# Altium schematic symbol library potenciostato_1.SCHLIB: 107 symbols
Pins are listed as number, name and electrical type; pins without a type are passive.

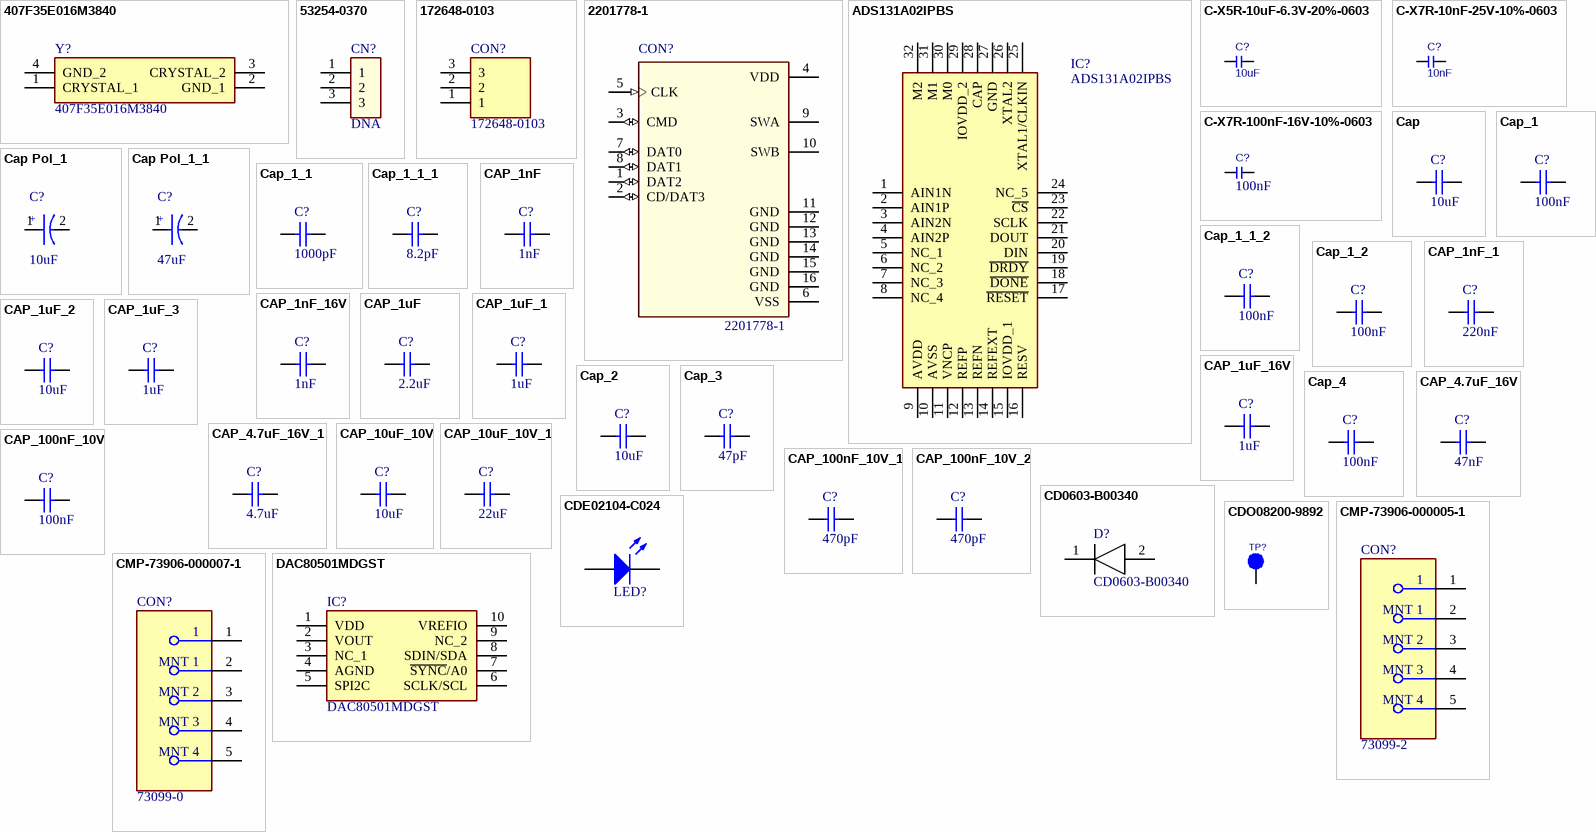
[diagram p0: symbols 407F35E016M3840 to DAC80501MDGST]

## 407F35E016M3840
designator Y?
Crystal or Oscillator; Manufacturer: CTS Electronic Components; PCBA: Assembly; Datasheet Link: http://www.ctscorp.com/wp-content/uploads/407.pdf; Value: 407F35E016M3840; MPN: 407F35E016M3840
footprint 407F35E016M3840
pins: 1 CRYSTAL_1, 2 GND_1, 3 CRYSTAL_2, 4 GND_2

## 53254-0370
designator CN?, comment DNA
MPN: Header; PCBA: DNA; Value: DNA
footprint HDR1X3 Large (Connector; Header; 5x2 Position)
pins: 1, 2, 3

## 172648-0103
designator CON?
Connector; Manufacturer: Molex; PCBA: Assembly; Datasheet Link: https://componentsearchengine.com//172648-0103.pdf; Value: 172648-0103; MPN: 172648-0103
footprint 1726480103
pins: 1, 2, 3

## 2201778-1
designator CON?
Manufacturer: TE Connectivity; PCBA: Assembly; MPN: 2201778-1; Datasheet: https://br.mouser.com/datasheet/2/418/PN_CD_2201778_B-1150756.pdf; Value: 2201778-1
footprint TE_2201778-1
pins: 1 DAT2 (io), 2 CD/DAT3 (io), 3 CMD (io), 4 VDD (power), 5 CLK (in), 6 VSS (power), 7 DAT0 (io), 8 DAT1 (io), 9 SWA, 10 SWB, 11 GND (power), 12 GND (power), 13 GND (power), 14 GND (power), 15 GND (power), 16 GND (power)

## ADS131A02IPBS
designator IC?
Integrated Circuit; Manufacturer: Texas Instruments; PCBA: Assembly; Datasheet Link: http://www.ti.com/lit/gpn/ADS131A02; MPN: ADS131A02IPBS; Value: ADS131A02IPBS
footprint QFP50P700X700X120-32N
pins: 1 AIN1N, 2 AIN1P, 3 AIN2N, 4 AIN2P, 5 NC_1, 6 NC_2, 7 NC_3, 8 NC_4, 9 AVDD, 10 AVSS, 11 VNCP, 12 REFP, 13 REFN, 14 REFEXT, 15 IOVDD_1, 16 RESV, 17 ~{RESET}, 18 ~{DONE}, 19 ~{DRDY}, 20 DIN, 21 DOUT, 22 SCLK, 23 ~{CS}, 24 NC_5, 25 XTAL1/CLKIN, 26 XTAL2, 27 GND, 28 CAP, 29 IOVDD_2, 30 M0, 31 M1, 32 M2

## C-X5R-10uF-6.3V-20%-0603
designator C?, comment 10uF
Capacitor Ceramic X5R 10uF 6.3V 20% 0603; Manufacturer: Murata Electronics; MPN: GRM188R61A106KE69D; PCBA: Assembly; Datasheet: https://www.mouser.com/datasheet/2/281/murata_03052018_GRM_Series_1-1310166.pdf; Value: 10uF
footprint 0603
pins: 1, 2

## C-X7R-10nF-25V-10%-0603
designator C?, comment 10nF
Capacitor Ceramic X7R 10nF 25V 10% 0603; Manufacturer: Wurth Electronics; MPN: 885012206089; PCBA: Assembly; Datasheet: https://www.mouser.com/datasheet/2/445/885012206089-554597.pdf; Value: 10nF
footprint 0603
pins: 1, 2

## C-X7R-100nF-16V-10%-0603
designator C?, comment 100nF
Capacitor Ceramic X7R 100nF 16V 10% 0603; Manufacturer: KEMET; MPN: C0603C104K4RACTU; PCBA: Assembly; Datasheet: https://www.mouser.com/datasheet/2/212/KEM_C1002_X7R_SMD-1102033.pdf; Value: 100nF
footprint 0603
pins: 1, 2

## Cap
designator C?, comment 10uF
MPN: GRM188R61A106KE69D; Manufacturer: Murata Electronics; PCBA: Assembly; Value: 10uF
footprint 0603
pins: 1, 2

## Cap Pol_1
designator C?, comment 10uF
Capacitor Electrolytic 10µF 20% 16V; MPN: GRM188R61A106KE69D; Manufacturer: Murata Electronics; PCB INFO: Assembly; Component Type: Standard; Complement Value: 16V; PCBA: Assembly; Value: 10uF
footprint CAP_6.6X6.6
pins: 1, 2
1 alternate drawing of the same symbol
text: +

## Cap Pol_1_1
designator C?, comment 47uF
Capacitor Electrolytic 47µF 20% 16V; MPN: UUQ1C470MCL1GB; Manufacturer: Nichicon; PCB INFO: Assembly; Component Type: Standard; Complement Value: 16V; PCBA: Assembly; Value: 47uF
footprint CAP_6.6X6.6
pins: 1, 2
1 alternate drawing of the same symbol
text: +

## Cap_1
designator C?, comment 100nF
Capacitor Ceramic 100nF 10% 16V 0603 (1608 Metric); MPN: C0603C104K4RACTU; Manufacturer: Kemet; PCB INFO: Assembly; Component Type: Standard; Complement Value: 16V; Package: 0603 (1608 Metric); PCBA: Assembly; Value: 100nF
footprint 0603
pins: 1, 2

## Cap_1_1
designator C?, comment 1000pF
Capacitor Ceramic 560pF 10% 16V 0603 (1608 Metric); MPN: 06033C102KAT2A; Manufacturer: Kyocera AVX; PCB INFO: Assembly; Component Type: Standard; Complement Value: 16V; Package: 0603 (1608 Metric); PCBA: Assembly; Value: 1000pF
footprint 0603
pins: 1, 2

## Cap_1_1_1
designator C?, comment 8.2pF
MPN: C0603C829C4GACAUTO; Manufacturer: Kemet; Complement Value: 16V; PCB INFO: Assembly; Component Type: Standard; Package: 0603 (1608 Metric); PCBA: Assembly; Value: 8.2pF
footprint 0603
pins: 1, 2

## Cap_1_1_2
designator C?, comment 100nF
Capacitor Ceramic 100nF 10% 16V 0603 (1608 Metric); MPN: C0603C104K4RACTU; Manufacturer: Kemet; PCB INFO: Assembly; Value: 10pF; Component Type: Standard; Complement Value: 16V; Package: 0603 (1608 Metric); PCBA: Assembly
footprint 0603
pins: 1, 2

## Cap_1_2
designator C?, comment 100nF
Capacitor Ceramic 100nF 10% 16V 0603 (1608 Metric); MPN: C0603C104K4RACTU; Manufacturer: Kemet; PCB INFO: Assembly; Component Type: Standard; Complement Value: 16V; Package: 0603 (1608 Metric); PCBA: Assembly; Value: 100nF
footprint 0603
pins: 1, 2

## CAP_1nF
designator C?, comment 1nF
Manufacturer: Yageo; MPN: CC0603JRX7R8BB102; PCBA: Assembly; Datasheet: https://www.mouser.com/datasheet/2/447/UPY-GPHC_X7R_6.3V-to-50V_18-1154002.pdf; Value: 1nF
footprint 0603
pins: 1, 2

## CAP_1nF_1
designator C?, comment 220nF
Manufacturer: Yageo; MPN: CC0603KRX7R7BB224; PCBA: Assembly; Datasheet: https://www.mouser.com/datasheet/2/447/UPY-GPHC_X7R_6.3V-to-50V_18-1154002.pdf; Value: 220nF
footprint 0603
pins: 1, 2

## CAP_1nF_16V
designator C?, comment 1nF
Manufacturer: Yageo; MPN: CC0603JRX7R8BB102; PCBA: Assembly; Datasheet: https://www.mouser.com/datasheet/2/447/UPY-GPHC_X7R_6.3V-to-50V_18-1154002.pdf; Value: 1nF
footprint 0603
pins: 1, 2

## CAP_1uF
designator C?, comment 2.2uF
Manufacturer: Wurth Electronics; MPN: 885012106018; Complement Value: 16V; PCBA: Assembly; Datasheet: https://www.mouser.com/datasheet/2/445/885012106018-1727438.pdf; Value: 2.2uF
footprint 0603
pins: 1, 2

## CAP_1uF_1
designator C?, comment 1uF
Manufacturer: Samsung Electro-Mechanics; MPN: CL10A105KA8NNNC; Complement Value: 16V; PCBA: Assembly; Datasheet: https://www.mouser.com/datasheet/2/445/885012106022-553988.pdf; Value: 1uF
footprint 0603
pins: 1, 2

## CAP_1uF_2
designator C?, comment 10uF
Manufacturer: Murata Electronics; MPN: GRM188R61A106KE69D; Complement Value: 16V; PCBA: Assembly; Datasheet: https://www.mouser.com/datasheet/2/212/KEM_C1006_X5R_SMD-1103249.pdf; Value: 10uF
footprint 0603
pins: 1, 2

## CAP_1uF_3
designator C?, comment 1uF
Manufacturer: Samsung Electro-Mechanics; MPN: CL10A105KA8NNNC; PCBA: Assembly; Datasheet: https://www.mouser.com/datasheet/2/585/MLCC-1837944.pdf; Value: 1uF
footprint 0603
pins: 1, 2

## CAP_1uF_16V
designator C?, comment 1uF
Manufacturer: Samsung Electro-Mechanics; MPN: CL10A105KA8NNNC; PCBA: Assembly; Datasheet: https://www.mouser.com/datasheet/2/585/MLCC-1837944.pdf; Value: 1uF
footprint 0603
pins: 1, 2

## Cap_2
designator C?, comment 10uF
Manufacturer: Murata Electronics; MPN: GRM188R61A106KE69D; PCBA: Assembly; Datasheet: https://www.mouser.com/datasheet/2/281/murata_03052018_GRM_Series_1-1310166.pdf; Value: 10uF
footprint 0603
pins: 1, 2

## Cap_3
designator C?, comment 47pF
Manufacturer: Vishay; MPN: VJ0603A470JXXPW1BC; PCBA: Assembly; Value: 47pF
footprint 0603
pins: 1, 2

## Cap_4
designator C?, comment 100nF
Manufacturer: KEMET; MPN: C0603C104K4RACTU; PCBA: Assembly; Value: 100nF
footprint 0603
pins: 1, 2

## CAP_4.7uF_16V
designator C?, comment 47nF
Manufacturer: AVX; MPN: 0603YC473KAT2A; PCBA: Assembly; Datasheet: http://www.mouser.com/ds/2/40/X7RDielectric-777024.pdf; Value: 47nF
footprint 0603
pins: 1, 2

## CAP_4.7uF_16V_1
designator C?, comment 4.7uF
Manufacturer: Taiyo Yuden; MPN: JMK105BBJ475MV-F; PCBA: Assembly; Datasheet: https://www.mouser.com/datasheet/2/396/mlcc02_e-1307760.pdf; Value: 4.7uF
footprint 0603
pins: 1, 2

## CAP_10uF_10V
designator C?, comment 10uF
Manufacturer: Murata Electronics; MPN: GRM188R61A106KE69D; PCBA: Assembly; Datasheet: http://www.mouser.com/ds/2/281/c02e-2905.pdf; Value: 10uF
footprint 0603
pins: 1, 2

## CAP_10uF_10V_1
designator C?, comment 22uF
Manufacturer: KEMET; MPN: C0603C226M9PACTU; PCBA: Assembly; Datasheet: http://www.mouser.com/ds/2/281/c02e-2905.pdf; Value: 22uF
footprint 0603
pins: 1, 2

## CAP_100nF_10V
designator C?, comment 100nF
Manufacturer: KEMET; MPN: C0603C104K4RACTU; PCBA: Assembly; Datasheet: https://www.mouser.com/datasheet/2/212/KEM_C1023_X7R_AUTO_SMD-1093309.pdf; Value: 100nF
footprint 0603
pins: 1, 2

## CAP_100nF_10V_1
designator C?, comment 470pF
Manufacturer: Kyocera AVX; MPN: 06033A471JAT2A; PCBA: Assembly; Datasheet: https://www.mouser.com/datasheet/2/212/KEM_C1023_X7R_AUTO_SMD-1093309.pdf; Value: 470pF
footprint 0603
pins: 1, 2

## CAP_100nF_10V_2
designator C?, comment 470pF
Manufacturer: Kyocera AVX; MPN: 06033A471JAT2A; PCBA: DNA; Datasheet: https://www.mouser.com/datasheet/2/212/KEM_C1023_X7R_AUTO_SMD-1093309.pdf; Value: 470pF
footprint 0603
pins: 1, 2

## CD0603-B00340
designator D?
Diode; MPN: CDBU0130R; Manufacturer: Comchip Technology; PCBA: Assembly; Datasheet Link: https://datasheet.datasheetarchive.com/originals/distributors/Datasheets-DGA23/1390916.pdf; Value: CD0603-B00340
footprint DIOM179X85N
pins: 1 K, 2 A

## CDE02104-C024
designator LED?, comment APG1608CGKC/T  (value not drawn)
Manufacturer: Kingbright; PCBA: Assembly; MPN: APG1608CGKC/T; Datasheet: http://www.mouser.com/ds/2/216/APG1608CGKC-T-76846.pdf; Value: APG1608CGKC/T
footprint 0603 - led
pins: 1 A, 2 K

## CDO08200-9892
designator TP?, comment Test Point  (value not drawn)
MPN: Test_Point; Manufacturer: DNA; PCBA: DNA; Value: Test Point
footprint TEST
pins: 1 Pin1

## CMP-73906-000005-1
designator CON?, comment 73099-2
R/A 4MM MOUNTG SAFE JACK/PCB RED; Manufacturer: Pomona Electronics; PCBA: Assembly; Value: 73099-2; MPN: 73099-2; Manufacturer Part Number: 73099-2
footprint FP-73099-2-MFG
pins: 1, 2 MNT 1, 3 MNT 2, 4 MNT 3, 5 MNT 4

## CMP-73906-000007-1
designator CON?, comment 73099-0
R/A 4MM MOUNTG SAFE JACK/PCB BLK; Manufacturer: Pomona Electronics; PCBA: Assembly; Value: 73099-0; MPN: 73099-0; Manufacturer Part Number: 73099-0
footprint FP-73099-0-MFG
pins: 1, 2 MNT 1, 3 MNT 2, 4 MNT 3, 5 MNT 4

## DAC80501MDGST
designator IC?
Integrated Circuit; Manufacturer: Texas Instruments; PCBA: Assembly; Datasheet Link: https://www.ti.com/lit/gpn/DAC80501; MPN: DAC80501MDGST; Value: DAC80501MDGST
footprint SOP50P490X110-10N
pins: 1 VDD, 2 VOUT, 3 NC_1, 4 AGND, 5 SPI2C, 6 SCLK/SCL, 7 ~{SYNC}/A0, 8 SDIN/SDA, 9 NC_2, 10 VREFIO

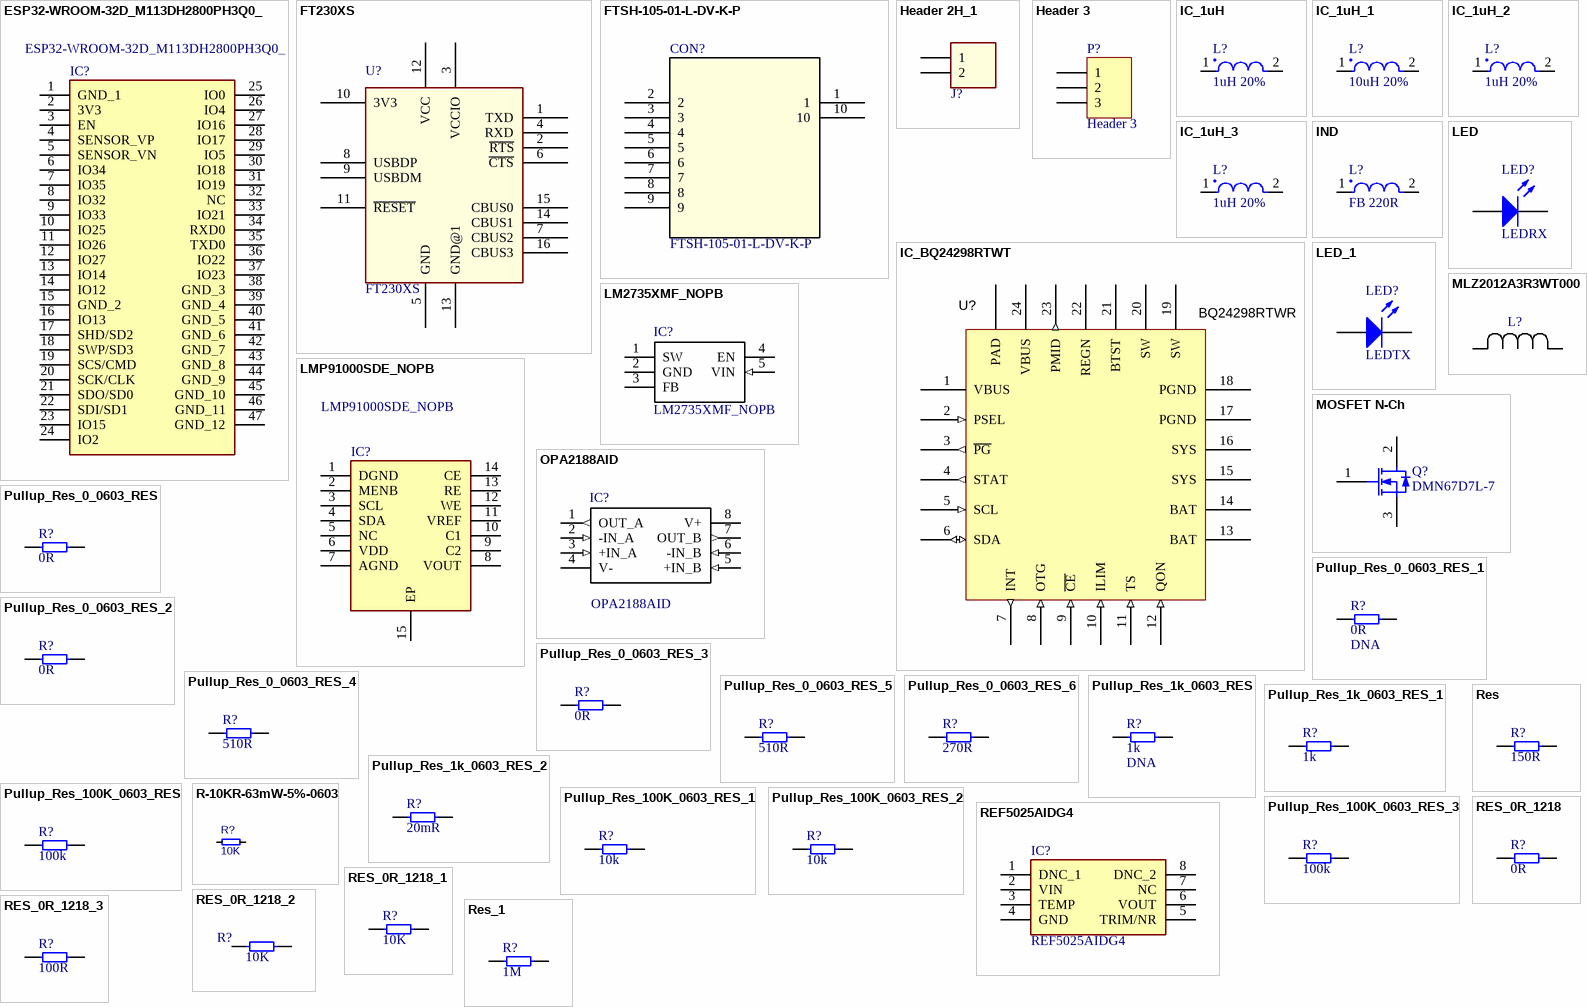
[diagram p1: symbols ESP32-WROOM-32D_M113DH2800PH3Q0_ to Res_1]

## ESP32-WROOM-32D_M113DH2800PH3Q0_
designator IC?
Integrated Circuit; Manufacturer: Espressif Systems; MPN: ESP32-WROOM-32D(M113DH2800PH3Q0); PCBA: Assembly; Datasheet Link: https://www.espressif.com/sites/default/files/documentation/esp32-wroom-32d_esp32-wroom-32u_datasheet_en.pdf; Value: ESP32-WROOM-32D_M113DH2800PH3Q0_
footprint ESP32WROOM32DM113DH2800PH3Q0
pins: 1 GND_1, 2 3V3, 3 EN, 4 SENSOR_VP, 5 SENSOR_VN, 6 IO34, 7 IO35, 8 IO32, 9 IO33, 10 IO25, 11 IO26, 12 IO27, 13 IO14, 14 IO12, 15 GND_2, 16 IO13, 17 SHD/SD2, 18 SWP/SD3, 19 SCS/CMD, 20 SCK/CLK, 21 SDO/SD0, 22 SDI/SD1, 23 IO15, 24 IO2, 25 IO0, 26 IO4, 27 IO16, 28 IO17, 29 IO5, 30 IO18, 31 IO19, 32 NC, 33 IO21, 34 RXD0, 35 TXD0, 36 IO22, 37 IO23, 38 GND_3, 39 GND_4, 40 GND_5, 41 GND_6, 42 GND_7, 43 GND_8, 44 GND_9, 45 GND_10, 46 GND_11, 47 GND_12

## FT230XS
designator U?
I/F, USB2.0 FS TO BASIC UART, 16SSOP; USB Type: Transceiver; USB Version: 2.0; Data Rate: 3Mbaud; Supply Voltage Rang...; Manufacturer: FTDI; PCBA: Assembly; MPN: FT230XS; Value: FT230XS
footprint SSOP-16-2
pins: 1 TXD (oc), 2 ~{RTS} (oc), 3 VCCIO (oc), 4 RXD (oc), 5 GND (oc), 6 ~{CTS} (oc), 7 CBUS2 (oc), 8 USBDP (oc), 9 USBDM (oc), 10 3V3 (oc), 11 ~{RESET} (oc), 12 VCC (oc), 13 GND@1 (oc), 14 CBUS1 (oc), 15 CBUS0 (oc), 16 CBUS3 (oc)

## FTSH-105-01-L-DV-K-P
designator CON?
No Description Available; Manufacturer: Samtec; MPN: FTSH-105-01-L-DV-K-P-TR; PCBA: Assembly; Datasheet: https://www.mouser.com/datasheet/2/527/ftsh_smt-1316912.pdf; Value: FTSH-105-01-L-DV-K-P
footprint CON10_2X5_DUK_FTSH_SAI (Footprint not found)
footprint SAMTEC_FTSH-105-XX-X-DV
pins: 1, 2, 3, 4, 5, 6, 7, 8, 9, 10

## Header 2H_1
designator J?, comment HDR1X2-2  (value not drawn)
MPN: Header; PCBA: Assembly; Value: HDR1X2-2
footprint HDR1X2-2 (Connector; Header; 2 Position)
pins: 1, 2

## Header 3
designator P?
Header, 3-Pin; PCBA: Assembly; Value: Header 3; MPN: Header
footprint HDR1X3 (Connector; Header; 3 Position)
signal-integrity model Connector
pins: 1, 2, 3

## IC_1uH
designator L?, comment 1uH 20%
Manufacturer: Bourns; MPN: SRP4012TA-1R0M; PCBA: DNA para teste; Datasheet: https://www.mouser.com/datasheet/2/54/rp4012ta-1391620.pdf; Value: 1uH 20%
footprint SRP4012TA (BOURNS)
pins: 1, 2

## IC_1uH_1
designator L?, comment 10uH 20%
Manufacturer: Bourns; MPN: SRP4012TA-100M; PCBA: Assembly; Datasheet: https://www.mouser.com/datasheet/2/54/rp4012ta-1391620.pdf; Value: 10uH 20%
footprint SRP4012TA (BOURNS)
footprint SRP4012TA (BOURNS)
footprint SRP4012 (BOURNS)
pins: 1, 2

## IC_1uH_2
designator L?, comment 1uH 20%
Manufacturer: Bourns; MPN: SRP4012TA-1R0M; PCBA: Assembly; Datasheet: https://www.mouser.com/datasheet/2/54/rp4012ta-1391620.pdf; Value: 1uH 20%
footprint SRP4012TA (BOURNS)
pins: 1, 2

## IC_1uH_3
designator L?, comment 1uH 20%
Manufacturer: Bourns; MPN: SRP4012TA-1R0M; PCBA: Assembly; Datasheet: https://www.mouser.com/datasheet/2/54/rp4012ta-1391620.pdf; Value: 1uH 20%
footprint SRP4012TA (BOURNS)
pins: 1, 2

## IC_BQ24298RTWT
designator U?, comment BQ24298RTWR
Battery Management I2C Controlled Single Cell 3A USB Charger with NVDC Power Path and Adjustable Voltage USB OTG 24-WQFN; Manufacturer: Texas Instruments; PCBA: Assembly; MPN: BQ24298RTWR; Datasheet: http://www.ti.com/general/docs/suppproductinfo.tsp?distId=26&gotoUrl=http%3A%2F%2Fwww.ti.com%2Flit%2Fgpn%2Fbq24298; Value: BQ24298RTWR
footprint WQFN-24 (QFN, 24-Leads, Body 4x4mm, Pitch 0.5mm, Thermal Pad 2.7x2.7mm,)
pins: 1 VBUS (power), 2 PSEL (in), 3 ~{PG} (out), 4 STAT (out), 5 SCL (in), 6 SDA (io), 7 INT (out), 8 OTG (in), 9 ~{CE} (in), 10 ILIM (in), 11 TS (in), 12 QON (in), 13 BAT (power), 14 BAT (power), 15 SYS (power), 16 SYS (power), 17 PGND (power), 18 PGND (power), 19 SW (power), 20 SW (power), 21 BTST (power), 22 REGN (power), 23 PMID (out), 24 VBUS (power), 25 PAD (power)
1 alternate drawing of the same symbol

## IND
designator L?, comment FB 220R
MPN: BLM18EG221SZ1D; Manufacturer: Murata Electronics; PCBA: Assembly; Datasheet: https://www.mouser.com/datasheet/2/281/c51e-794816.pdf; Value: FB 220R
footprint 0603
footprint IND_2012
pins: 1, 2

## LED
designator LED?, comment LEDRX
Manufacturer: ROHM Semiconductor; MPN: SML-D13M8WT86; PCBA: Assembly; Value: LEDRX
footprint 0603 - LED
pins: 1 A, 2 K

## LED_1
designator LED?, comment LEDTX
Manufacturer: ROHM Semiconductor; MPN: SML-D13M8WT86; PCBA: Assembly; Value: LEDTX
footprint 0603 - LED
pins: 1 A, 2 K

## LM2735XMF_NOPB
designator IC?
Integrated Circuit; MPN: LM2735XMF/NOPB; Manufacturer: Texas Instruments; PCBA: Assembly; Datasheet Link: http://www.ti.com/lit/ds/symlink/lm2735.pdf; Value: LM2735XMF_NOPB
footprint SOT95P280X145-5N
pins: 1 SW, 2 GND (power), 3 FB, 4 EN, 5 VIN (in)

## LMP91000SDE_NOPB
designator IC?
Integrated Circuit; MPN: LMP91000SDE/NOPB; Manufacturer: Texas Instruments; PCBA: Assembly; Datasheet Link: http://www.ti.com/lit/ds/symlink/lmp91000.pdf; Value: LMP91000SDE_NOPB
footprint SON50P400X400X80-15N
pins: 1 DGND, 2 MENB, 3 SCL, 4 SDA, 5 NC, 6 VDD, 7 AGND, 8 VOUT, 9 C2, 10 C1, 11 VREF, 12 WE, 13 RE, 14 CE, 15 EP

## MLZ2012A3R3WT000
designator L?, comment Part Number: MLZ2012A3R3WT000  (value not drawn)
No Description Available; Manufacturer: TDK; PCBA: DNA para teste; MPN: MLZ2012A3R3WT000; Datasheet: https://www.mouser.com/datasheet/2/400/nductor_commercial_decoupling_mlz2012_en-918301.pdf; Value: Part Number: MLZ2012A3R3WT000
footprint IND_2012
footprint IND_2012
pins: 1, 2

## MOSFET N-Ch
designator Q?, comment DMN67D7L-7
Manufacturer: Diodes Incorporated; PCBA: Assembly; MPN: DMN67D7L-7; Value: DMN67D7L-7
footprint DMN67D7L-7
footprint D_SOT23
pins: 1 G, 2 D, 3 S

## OPA2188AID
designator IC?
Integrated Circuit; Manufacturer: Texas Instruments; PCBA: DNA; Datasheet Link: http://www.ti.com/lit/ds/symlink/opa2188.pdf; MPN: OPA2188AID; Value: OPA2188AID
footprint SOIC127P600X175-8N
pins: 1 OUT_A (out), 2 -IN_A (in), 3 +IN_A (in), 4 V- (power), 5 +IN_B (in), 6 -IN_B (in), 7 OUT_B (out), 8 V+ (power)

## Pullup_Res_0_0603_RES
designator R?, comment 0R
MPN: RC0603JR-070RL; Manufacturer: Yageo; PCBA: Assembly; Datasheet: https://www.mouser.com/datasheet/2/447/PYu-RC_Group_51_RoHS_L_10-1527934.pdf; Value: 0R
footprint 0603
pins: 1, 2

## Pullup_Res_0_0603_RES_1
designator R?, comment 0R  PCBA: DNA
MPN: RC0603JR-070RL; Manufacturer: Yageo; Datasheet: https://www.mouser.com/datasheet/2/447/PYu-RC_Group_51_RoHS_L_10-1527934.pdf; Value: 0R
footprint 0603
pins: 1, 2

## Pullup_Res_0_0603_RES_2
designator R?, comment 0R
MPN: RC0603JR-070RL; Manufacturer: Yageo; PCBA: Assembly; Datasheet: https://www.mouser.com/datasheet/2/447/PYu-RC_Group_51_RoHS_L_10-1527934.pdf; Value: 0R
footprint 0603
pins: 1, 2

## Pullup_Res_0_0603_RES_3
designator R?, comment 0R
MPN: RC0603JR-070RL; Manufacturer: Yageo; PCBA: DNA; Datasheet: https://www.mouser.com/datasheet/2/447/PYu-RC_Group_51_RoHS_L_10-1527934.pdf; Value: 0R
footprint 0603
pins: 1, 2

## Pullup_Res_0_0603_RES_4
designator R?, comment 510R
MPN: RC0603FR-13510RL; Manufacturer: Yageo; PCBA: DNA; Datasheet: https://www.mouser.com/datasheet/2/447/PYu-RC_Group_51_RoHS_L_10-1527934.pdf; Value: 510R
footprint 0603
pins: 1, 2

## Pullup_Res_0_0603_RES_5
designator R?, comment 510R
MPN: RC0603FR-13510RL; Manufacturer: Yageo; PCBA: Assembly; Datasheet: https://www.mouser.com/datasheet/2/447/PYu-RC_Group_51_RoHS_L_10-1527934.pdf; Value: 510R
footprint 0603
pins: 1, 2

## Pullup_Res_0_0603_RES_6
designator R?, comment 270R
MPN: RC0603JR-070RL; Manufacturer: Yageo; PCBA: DNA; Datasheet: https://www.mouser.com/datasheet/2/447/PYu-RC_Group_51_RoHS_L_10-1527934.pdf; Value: 270R
footprint 0603
pins: 1, 2

## Pullup_Res_1k_0603_RES
designator R?, comment 1k  PCBA: DNA
MPN: RC0603JR-071KL; Manufacturer: Yageo; Complement Value: 0.1W, 1/10W; Datasheet: https://www.mouser.com/datasheet/2/447/PYu-RC_Group_51_RoHS_L_10-1527934.pdf; Value: 1k
footprint 0603
pins: 1, 2

## Pullup_Res_1k_0603_RES_1
designator R?, comment 1k
MPN: RC0603JR-071KL; Manufacturer: Yageo; PCBA: Assembly; Datasheet: https://www.mouser.com/datasheet/2/447/PYu-RC_Group_51_RoHS_L_10-1527934.pdf; Value: 1k
footprint 0603
pins: 1, 2

## Pullup_Res_1k_0603_RES_2
designator R?, comment 20mR
MPN: CFN0603-FX-R020ELF; Manufacturer: Bourns; PCBA: Assembly; Datasheet: https://br.mouser.com/datasheet/2/447/yageodocoutput-1518764.pdf; Value: 20mR
footprint 0805
pins: 1, 2

## Pullup_Res_100K_0603_RES
designator R?, comment 100k
MPN: RC0603FR-07100KL; Manufacturer: Yageo; PCBA: Assembly; Datasheet: https://www.mouser.com/datasheet/2/447/PYu-RC_Group_51_RoHS_L_10-1527934.pdf; Value: 100k
footprint 0603
pins: 1, 2

## Pullup_Res_100K_0603_RES_1
designator R?, comment 10k
MPN: RC0603FR-1310KL; Manufacturer: Yageo; PCBA: DNA; Datasheet: https://www.mouser.com/datasheet/2/447/PYu-RC_Group_51_RoHS_L_10-1527934.pdf; Value: 10k
footprint 0603
pins: 1, 2

## Pullup_Res_100K_0603_RES_2
designator R?, comment 10k
MPN: RC0603FR-1310KL; Manufacturer: Yageo; PCBA: Assembly; Datasheet: https://www.mouser.com/datasheet/2/447/PYu-RC_Group_51_RoHS_L_10-1527934.pdf; Value: 10k
footprint 0603
pins: 1, 2

## Pullup_Res_100K_0603_RES_3
designator R?, comment 100k
MPN: RC0603FR-07100KL; Manufacturer: Yageo; PCBA: DNA; Datasheet: https://www.mouser.com/datasheet/2/447/PYu-RC_Group_51_RoHS_L_10-1527934.pdf; Value: 100k
footprint 0603
pins: 1, 2

## R-10KR-63mW-5%-0603
designator R?, comment 10K
Resistor 10 Kohm 63mW 5% 0603; Manufacturer: Yageo; MPN: RC0603FR-1310KL; PCBA: Assembly; Datasheet: https://www.mouser.com/datasheet/2/427/crcwce3-1223726.pdf; Value: 10K
footprint 0603
pins: 1, 2

## REF5025AIDG4
designator IC?
Integrated Circuit; Manufacturer: Texas Instruments; PCBA: Assembly; Datasheet Link: https://www.ti.com/lit/ds/symlink/ref5020.pdf?HQS=TI-null-null-digikeymode-df-pf-null-wwe&ts=1600155491186; MPN: REF5025AIDG4; Value: REF5025AIDG4
footprint SOIC127P600X175-8N
footprint SOIC127P600X175-8N
pins: 1 DNC_1, 2 VIN, 3 TEMP, 4 GND, 5 TRIM/NR, 6 VOUT, 7 NC, 8 DNC_2

## Res
designator R?, comment 150R
MPN: CR0603-JW-151ELF; Manufacturer: Bourns; PCBA: Assembly; Value: 150R
footprint 0603
pins: 1, 2

## RES_0R_1218
designator R?, comment 0R
Manufacturer: Yageo; MPN: RC0603JR-070RL; PCBA: Assembly; Datasheet: http://www.mouser.com/ds/2/447/PYu-RC1218_51_RoHS_L_(3)-2499.pdf; Value: 0R
footprint 1218
footprint 0603
pins: 1, 2

## RES_0R_1218_1
designator R?, comment 10K
Manufacturer: Yageo; MPN: RC0603FR-1310KL; PCBA: Assembly; Datasheet: http://www.mouser.com/ds/2/447/PYu-RC1218_51_RoHS_L_(3)-2499.pdf; Value: 10K
footprint 0603
pins: 1, 2

## RES_0R_1218_2
designator R?, comment 10K
Manufacturer: Yageo; MPN: RC0603FR-1310KL; PCBA: DNA; Value: 10K
footprint 0603
pins: 1, 2

## RES_0R_1218_3
designator R?, comment 100R
Manufacturer: Yageo; MPN: RC0603JR-07100RL; PCBA: Assembly; Datasheet: http://www.mouser.com/ds/2/447/PYu-RC1218_51_RoHS_L_(3)-2499.pdf; Value: 100R
footprint 0603
pins: 1, 2

## Res_1
designator R?, comment 1M
MPN: RC0603FR-071ML; Manufacturer: Yageo; PCBA: Assembly; Value: 1M
footprint 0603
pins: 1, 2

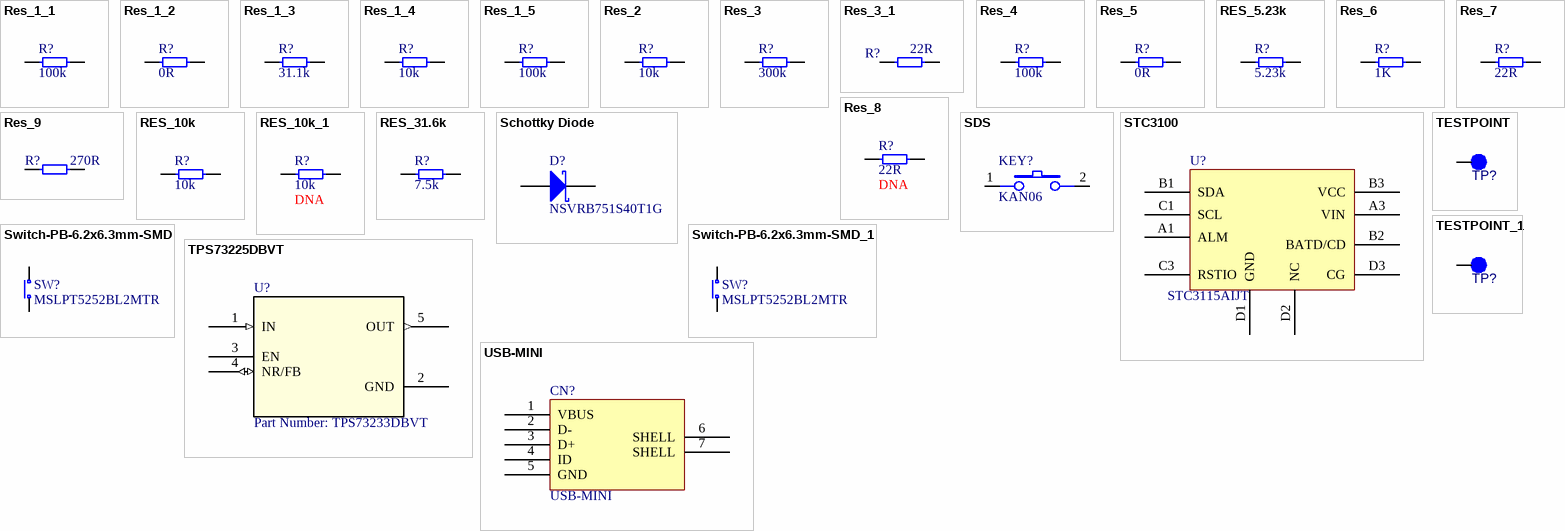
[diagram p2: symbols Res_1_1 to USB-MINI]

## Res_1_1
designator R?, comment 100k
Resistor Thick Film 1k 1% 0.1W, 1/10W 0603 (1608 metric) +/- 100 PPM / K; MPN: RC0603FR-07100KL; Manufacturer: YAGEO; PCB INFO: Assembly; Component Type: Standard; Complement Value: 0.1W, 1/10W; Package: 0603 (1608 metric); PCBA: Assembly; Value: 100k
footprint 0603
pins: 1, 2

## Res_1_2
designator R?, comment 0R
Resistor Thick Film 1k 1% 0.1W, 1/10W 0603 (1608 metric) +/- 100 PPM / K; MPN: RC0603JR-070RL; Manufacturer: Yageo; PCB INFO: Assembly; Component Type: Standard; Complement Value: 0.1W, 1/10W; Package: 0603 (1608 metric); PCBA: Assembly; Value: 0R
footprint 0603
pins: 1, 2

## Res_1_3
designator R?, comment 31.1k
Resistor Thick Film 30.1k 1% 0.1W, 1/10W 0603 (1608 metric) +/- 100 PPM / K; MPN: RC0603FR-0730K1L; Manufacturer: Yageo; PCB INFO: Assembly; Component Type: Standard; Complement Value: 0.1W, 1/10W; Package: 0603 (1608 metric); PCBA: Assembly; Value: 30.1k
footprint 0603
pins: 1, 2

## Res_1_4
designator R?, comment 10k
Resistor Thick Film 1k 1% 0.1W, 1/10W 0603 (1608 metric) +/- 100 PPM / K; MPN: CR0603-FX-1002ELF; Manufacturer: Bourns; PCB INFO: Assembly; Component Type: Standard; Complement Value: 0.1W, 1/10W; Package: 0603 (1608 metric); PCBA: Assembly; Value: 10k
footprint 0603
pins: 1, 2

## Res_1_5
designator R?, comment 100k
Resistor Thick Film 100k 1% 0.1W, 1/10W 0603 (1608 metric) +/- 100 PPM / K; MPN: AF0603JR-07100KL; Manufacturer: Yageo; PCB INFO: Assembly; Component Type: Standard; Complement Value: 0.1W, 1/10W; Package: 0603 (1608 metric); PCBA: Assembly; Value: 100k
footprint 0603
pins: 1, 2

## Res_2
designator R?, comment 10k
MPN: RC0603FR-1310KL; Manufacturer: Yageo; PCBA: Assembly; Value: 10k
footprint 0603
pins: 1, 2

## Res_3
designator R?, comment 300k
MPN: RC0603FR-07300KL; Manufacturer: Yageo; PCBA: Assembly; Value: 300k
footprint 0603
pins: 1, 2

## Res_3_1
designator R?, comment 22R
MPN: RT0603FRE0722RL; Manufacturer: Yageo; PCBA: Assembly; Value: 22R
footprint 0603
pins: 1, 2

## Res_4
designator R?, comment 100k
MPN: RC0603FR-07100KL; Manufacturer: YAGEO; PCBA: Assembly; Value: 100k
footprint 0603
pins: 1, 2

## Res_5
designator R?, comment 0R
MPN: RC0603JR-070RL; Manufacturer: Yageo; PCBA: Assembly; Value: 0R
footprint 0603
pins: 1, 2

## RES_5.23k
designator R?, comment 5.23k
Manufacturer: KOA; MPN: RK73H1JTTD5231F; PCBA: Assembly; Datasheet: http://www.mouser.com/ds/2/219/RK73H-5715.pdf; Value: 5.23k
footprint 0603
pins: 1, 2

## Res_6
designator R?, comment 1K
Manufacturer: Yageo; MPN: RC0603JR-071KL; PCBA: DNA; Datasheet: https://www.mouser.com/datasheet/2/447/PYu-RT_1-to-0.01_RoHS_L_9-1222720.pdf; Value: 1K
footprint 0603
pins: 1, 2

## Res_7
designator R?, comment 22R
Manufacturer: Yageo; MPN: RT0603FRE0722RL; PCBA: Assembly; Datasheet: https://www.mouser.com/datasheet/2/447/PYu-RT_1-to-0.01_RoHS_L_9-1222720.pdf; Value: 22R
footprint 0603
pins: 1, 2

## Res_8
designator R?, comment 22R  PCBA: DNA
Manufacturer: Yageo; MPN: RT0603FRE0722RL; Datasheet: https://www.mouser.com/datasheet/2/447/PYu-RC_Group_51_RoHS_L_10-1527934.pdf; Value: 22R
footprint 0603
pins: 1, 2

## Res_9
designator R?, comment 270R
Manufacturer: Yageo; MPN: RC0603FR-07270RL; PCBA: Assembly; Value: 270R
footprint 0603
pins: 1, 2

## RES_10k
designator R?, comment 10k
Manufacturer: Yageo; MPN: RC0603FR-1310KL; PCBA: Assembly; Datasheet: https://www.mouser.com/datasheet/2/447/PYu-RC_Group_51_RoHS_L_10-1527934.pdf; Value: 10k
footprint 0603
pins: 1, 2

## RES_10k_1
designator R?, comment 10k  PCBA: DNA
Manufacturer: Yageo; MPN: RC0603FR-1310KL; Datasheet: https://www.mouser.com/datasheet/2/447/PYu-RC_Group_51_RoHS_L_10-1527934.pdf; Value: 10k
footprint 0603
pins: 1, 2

## RES_31.6k
designator R?, comment 7.5k
Manufacturer: KOA Speer; MPN: RN73R1JTTD7501B25; PCBA: Assembly; Datasheet: https://br.mouser.com/datasheet/2/219/RN73R-1544889.pdf; Value: 7.5k
footprint 0603
pins: 1, 2

## Schottky Diode
designator D?, comment NSVRB751S40T1G
Schottky Diodes & Rectifiers SS 40V SHTKY SOD523; Manufacturer: onsemi; PCBA: Assembly; MPN: NSVRB751S40T1G; Value: NSVRB751S40T1G
footprint NSVRB751S40T1G
footprint D_SOD523
pins: A, K

## SDS
designator KEY?, comment KAN06
Manufacturer: Metaltex; PCBA: Assembly; Datasheet: www.metaltex.com.br/assets/produtos/pdf/a0.pdf; MPN: KAN06; Value: KAN06
footprint 7914S-1-050E
footprint KAN06_v2
pins: 1, 2

## STC3100
designator U?, comment STC3115AIJT
Battery Management CONDITIONING & INTERFACES; Manufacturer: STMicroelectronics; PCBA: Assembly; Datasheet: https://br.mouser.com/datasheet/2/389/stc3115-974248.pdf; MPN: STC3115AIJT; Value: STC3115AIJT
footprint CSP1.4X2.04
pins: A1 ALM, A3 VIN, B1 SDA, B2 BATD/CD, B3 VCC, C1 SCL, C3 RSTIO, D1 GND, D2 NC, D3 CG

## Switch-PB-6.2x6.3mm-SMD
designator SW?, comment MSLPT5252BL2MTR
Tactile Switch, SPNO, SMD, 160gf, 6.2x6.3x2.5mm; Manufacturer: TE Connectivity / Alcoswitch; PCBA: Assembly; MPN: MSLPT5252BL2MTR; Value: MSLPT5252BL2MTR
footprint MSLPT5252BG1MTR_pullup
footprint MSLPT5252BG1MTR
pins: 1 N.O, 2 COM

## Switch-PB-6.2x6.3mm-SMD_1
designator SW?, comment MSLPT5252BL2MTR
Tactile Switch, SPNO, SMD, 160gf, 6.2x6.3x2.5mm; Manufacturer: TE Connectivity / Alcoswitch; PCBA: Assembly; MPN: MSLPT5252BL2MTR
footprint MSLPT5252BG1MTR_pullup
footprint MSLPT5252BG1MTR
pins: 1 N.O, 2 COM

## TESTPOINT
designator TP?, comment Test Point  (value not drawn)
MPN: Test_Point; Manufacturer: DNA; PCBA: DNA; Value: Test Point
footprint TEST
pins: 1 TP

## TESTPOINT_1
designator TP?, comment Test Point  (value not drawn)
MPN: Test_Point; Manufacturer: DNA; PCBA: DNA; Value: Test Point
footprint TEST
pins: 1 TP

## TPS73225DBVT
designator U?, comment Part Number: TPS73233DBVT
No Description Available; Manufacturer: Texas Instruments; MPN: TPS73233DBVR; PCBA: Assembly; Datasheet: http://www.ti.com/lit/ds/symlink/tps732.pdf; Value: Part Number: TPS73233DBVT
footprint DBV5
footprint DBV5
pins: 1 IN (in), 2 GND (power), 3 EN, 4 NR/FB (io), 5 OUT (out)

## USB-MINI
designator CN?
MPN: 2172034-1; Manufacturer: TE Connectivity AMP Connectors; PCBA: Assembly; Datasheet: https://www.te.com/commerce/DocumentDelivery/DDEController?Action=srchrtrv&DocNm=2172034&DocType=Customer+Drawing&DocLang=English; Value: USB-MINI
footprint TE_2172034-1
pins: 1 VBUS, 2 D-, 3 D+, 4 ID, 5 GND, 6 SHELL, 7 SHELL